# Altium schematic symbol library ADR530.SchLib: 1 symbol
Pins are listed as number, name and electrical type; pins without a type are passive.

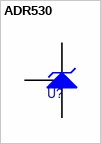
[diagram p0: symbol ADR530]

## ADR530
designator U?
pins: 1 V+, 2 V-, 3 TRIM